# Altium schematic symbol library XFCN T44001.Schlib: 1 symbol
Pins are listed as number, name and electrical type; pins without a type are passive.

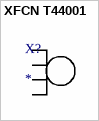
[diagram p0: symbol XFCN T44001]

## XFCN T44001
designator X?
pins: 1, 2, 3, 4